# EAGLE library part LM2621 (library custom_componentsv0.9)
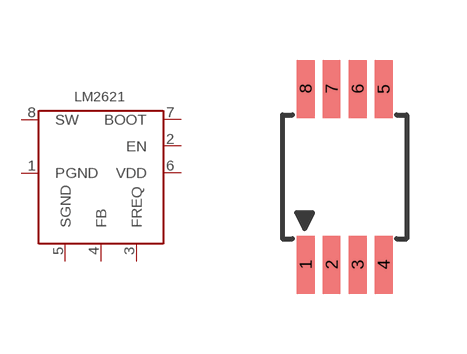
[diagram p0: symbol with the pads of R-PDSO-G8; footprint R-PDSO-G8]

Designator prefix -

## LM2621  [R-PDSO-G8]
1  PGND
2  EN
3  FREQ
4  FB
5  SGND
6  VDD
7  BOOT
8  SW

## Footprint R-PDSO-G8 (pad centres in mm)
smd 0.45 x 1.45: 1 -0.975,-2.2; 2 -0.325,-2.2; 3 0.325,-2.2; 4 0.975,-2.2; 5 0.975,2.2; 6 0.325,2.2; 7 -0.325,2.2; 8 -0.975,2.2